# Altium footprint library Microchip PIC16.PcbLib: 69 footprints (part 1 of 5)
Each footprint in its own frame and in the unit in brackets; x right, y up, seen from the top. Pads: shape width x height; smd on the part's side, far side on the other; paste and mask are expansions set on the pad; w line width, h text height; cw(c..) or ccw(c..) is an arc to the next point about the centre after c.
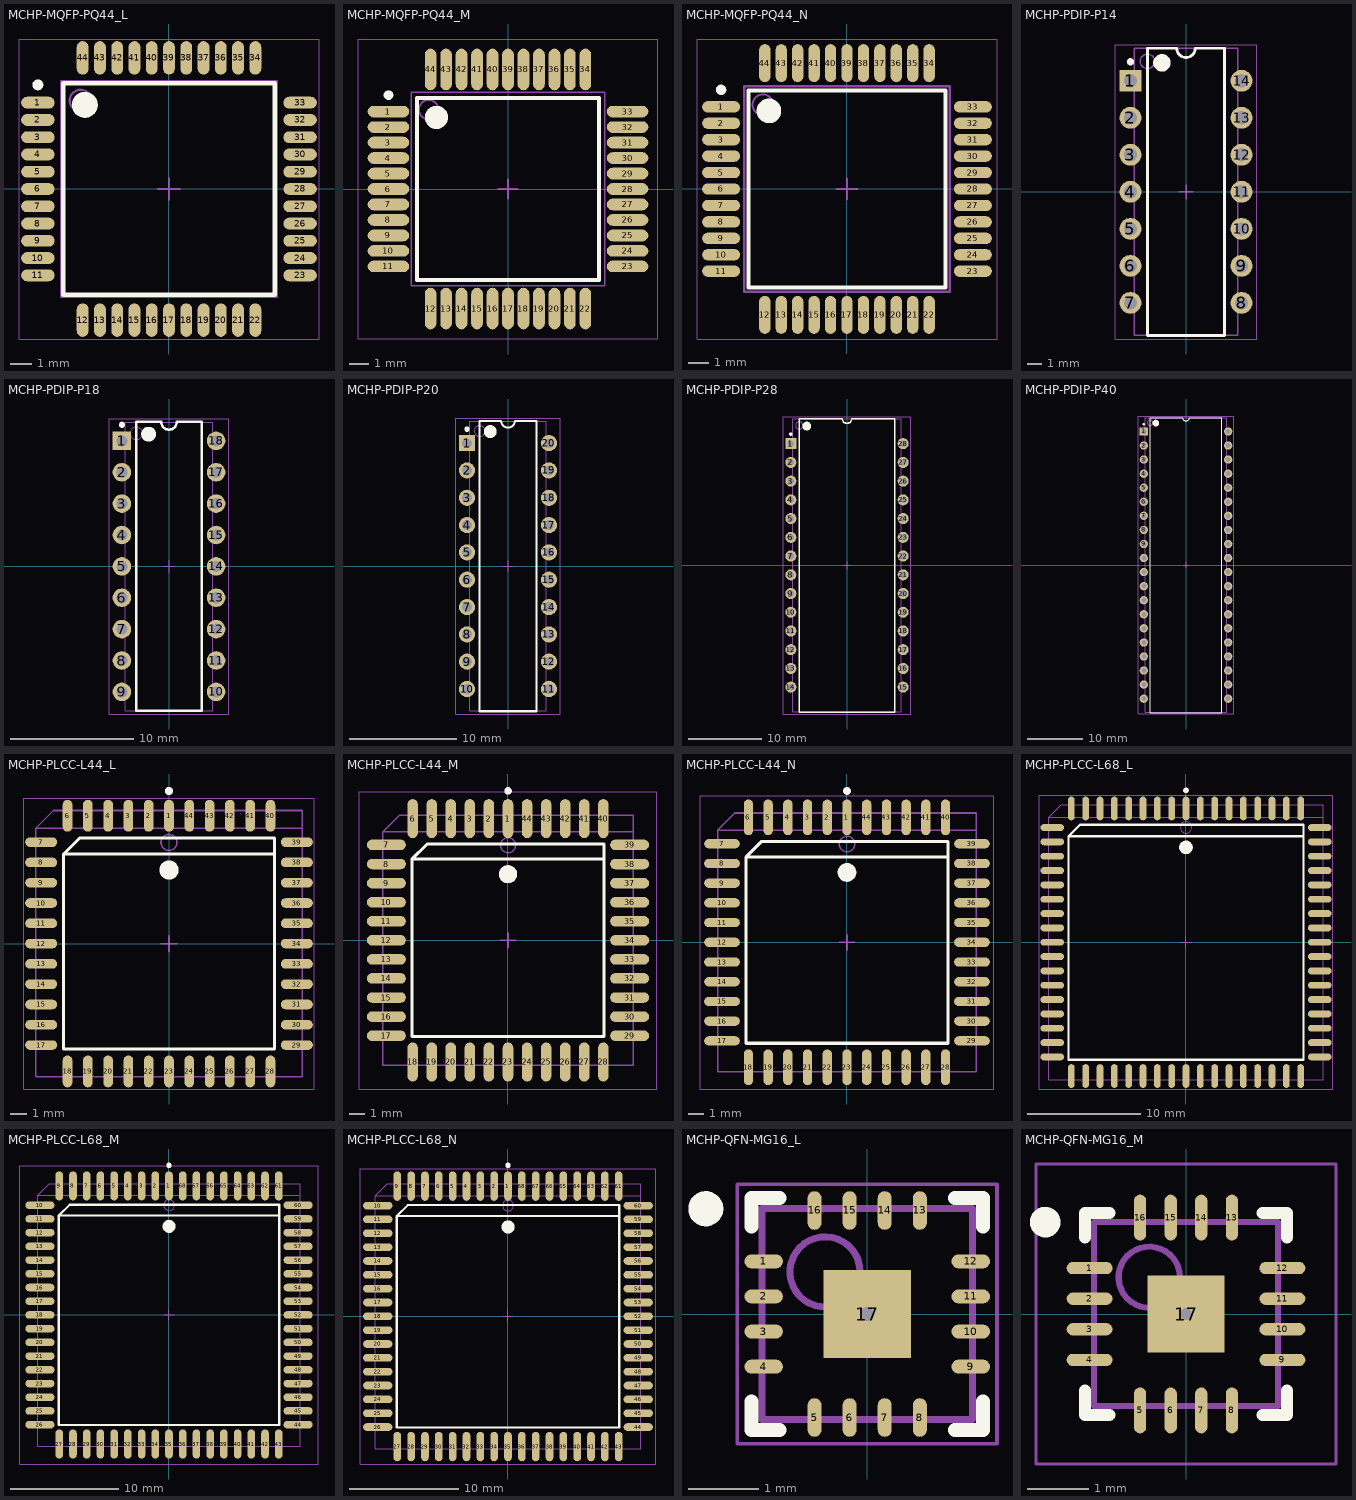
[diagram p0: the footprints below, top view; thin cyan lines are the x and y axes]

## MCHP-MQFP-PQ44_L [mm] "MQFP, 44-Leads, Body 10x10mm, Pitch 0.8mm, IPC High Density"
height 2.45
pads (44):
  oval 1.55x0.55 smd: 1(-6.075,4) 2(-6.075,3.2) 3(-6.075,2.4) 4(-6.075,1.6) 5(-6.075,0.8) 6(-6.075,0) 7(-6.075,-0.8) 8(-6.075,-1.6) 9(-6.075,-2.4) 10(-6.075,-3.2) 11(-6.075,-4) 23(6.075,-4) 24(6.075,-3.2) 25(6.075,-2.4) 26(6.075,-1.6) 27(6.075,-0.8) 28(6.075,0) 29(6.075,0.8) 30(6.075,1.6) 31(6.075,2.4) 32(6.075,3.2) 33(6.075,4)
  oval 0.55x1.55 smd: 12(-4,-6.075) 13(-3.2,-6.075) 14(-2.4,-6.075) 15(-1.6,-6.075) 16(-0.8,-6.075) 17(0,-6.075) 18(0.8,-6.075) 19(1.6,-6.075) 20(2.4,-6.075) 21(3.2,-6.075) 22(4,-6.075) 34(4,6.075) 35(3.2,6.075) 36(2.4,6.075) 37(1.6,6.075) 38(0.8,6.075) 39(0,6.075) 40(-0.8,6.075) 41(-1.6,6.075) 42(-2.4,6.075) 43(-3.2,6.075) 44(-4,6.075)
Top Overlay:
  circle w0.25: c-6.075,4.825 r0.125
  circle w0.6: c-3.9,3.9 r0.3
  lines w0.2: -4.9,-4.9 -4.9,4.9 4.9,4.9 4.9,-4.9 -4.9,-4.9
Mechanical 13:
  circle w0.1: c-4.1,4.1 r0.5
  lines w0.1: -5,-5 -5,5 5,5 5,-5 -5,-5
Mechanical 15:
  lines w0.05: -6.95,-6.95 -6.95,6.95 6.95,6.95 6.95,-6.95 -6.95,-6.95
  lines w0.1: -0.5,0 0.5,0 ; 0,-0.5 0,0.5
3D body: height 2.45, standoff 0, extent -5,-5 5,5

## MCHP-MQFP-PQ44_M [mm] "MQFP, 44-Leads, Body 10x10mm, Pitch 0.8 mm, IPC Low Density"
height 2.45
pads (44):
  oval 2.15x0.6 smd: 1(-6.175,4) 2(-6.175,3.2) 3(-6.175,2.4) 4(-6.175,1.6) 5(-6.175,0.8) 6(-6.175,0) 7(-6.175,-0.8) 8(-6.175,-1.6) 9(-6.175,-2.4) 10(-6.175,-3.2) 11(-6.175,-4) 23(6.175,-4) 24(6.175,-3.2) 25(6.175,-2.4) 26(6.175,-1.6) 27(6.175,-0.8) 28(6.175,0) 29(6.175,0.8) 30(6.175,1.6) 31(6.175,2.4) 32(6.175,3.2) 33(6.175,4)
  oval 0.6x2.15 smd: 12(-4,-6.175) 13(-3.2,-6.175) 14(-2.4,-6.175) 15(-1.6,-6.175) 16(-0.8,-6.175) 17(0,-6.175) 18(0.8,-6.175) 19(1.6,-6.175) 20(2.4,-6.175) 21(3.2,-6.175) 22(4,-6.175) 34(4,6.175) 35(3.2,6.175) 36(2.4,6.175) 37(1.6,6.175) 38(0.8,6.175) 39(0,6.175) 40(-0.8,6.175) 41(-1.6,6.175) 42(-2.4,6.175) 43(-3.2,6.175) 44(-4,6.175)
Top Overlay:
  circle w0.25: c-6.175,4.85 r0.125
  circle w0.6: c-3.7,3.7 r0.3
  lines w0.2: -4.7,-4.7 -4.7,4.7 4.7,4.7 4.7,-4.7 -4.7,-4.7
Mechanical 13:
  circle w0.1: c-4.1,4.1 r0.5
  lines w0.1: -5,-5 -5,5 5,5 5,-5 -5,-5
Mechanical 15:
  lines w0.05: -7.75,-7.75 -7.75,7.75 7.75,7.75 7.75,-7.75 -7.75,-7.75
  lines w0.1: -0.5,0 0.5,0 ; 0,-0.5 0,0.5
3D body: height 2.45, standoff 0, extent -5,-5 5,5

## MCHP-MQFP-PQ44_N [mm] "MQFP, 44-Leads, Body 10x10mm, Pitch 0.8mm, IPC Medium Density"
height 2.45
pads (44):
  oval 1.85x0.55 smd: 1(-6.125,4) 2(-6.125,3.2) 3(-6.125,2.4) 4(-6.125,1.6) 5(-6.125,0.8) 6(-6.125,0) 7(-6.125,-0.8) 8(-6.125,-1.6) 9(-6.125,-2.4) 10(-6.125,-3.2) 11(-6.125,-4) 23(6.125,-4) 24(6.125,-3.2) 25(6.125,-2.4) 26(6.125,-1.6) 27(6.125,-0.8) 28(6.125,0) 29(6.125,0.8) 30(6.125,1.6) 31(6.125,2.4) 32(6.125,3.2) 33(6.125,4)
  oval 0.55x1.85 smd: 12(-4,-6.125) 13(-3.2,-6.125) 14(-2.4,-6.125) 15(-1.6,-6.125) 16(-0.8,-6.125) 17(0,-6.125) 18(0.8,-6.125) 19(1.6,-6.125) 20(2.4,-6.125) 21(3.2,-6.125) 22(4,-6.125) 34(4,6.125) 35(3.2,6.125) 36(2.4,6.125) 37(1.6,6.125) 38(0.8,6.125) 39(0,6.125) 40(-0.8,6.125) 41(-1.6,6.125) 42(-2.4,6.125) 43(-3.2,6.125) 44(-4,6.125)
Top Overlay:
  circle w0.25: c-6.125,4.825 r0.125
  circle w0.6: c-3.8,3.8 r0.3
  lines w0.2: -4.8,-4.8 -4.8,4.8 4.8,4.8 4.8,-4.8 -4.8,-4.8
Mechanical 13:
  circle w0.1: c-4.1,4.1 r0.5
  lines w0.1: -5,-5 -5,5 5,5 5,-5 -5,-5
Mechanical 15:
  lines w0.05: -7.3,-7.3 -7.3,7.3 7.3,7.3 7.3,-7.3 -7.3,-7.3
  lines w0.1: -0.5,0 0.5,0 ; 0,-0.5 0,0.5
3D body: height 2.45, standoff 0, extent -5,-5 5,5

## MCHP-PDIP-P14 [mm] "DIP, 14-Leads, Body 19.177x6.604mm, Pitch 2.54mm"
height 5.34
pads (14):
  rect 1.5x1.5 hole 0.9: 1(-3.81,7.62)
  round 1.5 hole 0.9: 2(-3.81,5.08) 3(-3.81,2.54) 4(-3.81,0) 5(-3.81,-2.54) 6(-3.81,-5.08) 7(-3.81,-7.62) 8(3.81,-7.62) 9(3.81,-5.08) 10(3.81,-2.54) 11(3.81,0) 12(3.81,2.54) 13(3.81,5.08) 14(3.81,7.62)
Top Overlay:
  circle w0.25: c-3.81,8.92 r0.125
  circle w0.6: c-1.65,8.85 r0.3
  lines w0.2: -2.65,-9.85 -2.65,9.85 -0.635,9.85 ccw(c0,9.85) 0.635,9.85 2.65,9.85 2.65,-9.85 -2.65,-9.85
Mechanical 13:
  circle w0.1: c-2.65,8.95 r0.5
  lines w0.1: -3.55,-9.85 -3.55,9.85 3.55,9.85 3.55,-9.85 -3.55,-9.85
Mechanical 15:
  lines w0.05: -4.85,-10.1 -4.85,10.1 4.85,10.1 4.85,-10.1 -4.85,-10.1
  lines w0.1: -0.5,0 0.5,0 ; 0,-0.5 0,0.5
3D body: height 2.73, standoff 0, extent -3.945,7.12 -3.675,8.12
3D body: height 3, standoff 2.72, extent -3.945,7.12 -3.55,8.12
3D body: height 0, standoff -1.6, extent -3.945,7.26 -3.675,7.98
3D body: height 2.73, standoff 0, extent -3.945,4.58 -3.675,5.58
3D body: height 3, standoff 2.72, extent -3.945,4.58 -3.55,5.58
3D body: height 0, standoff -1.6, extent -3.945,4.72 -3.675,5.44
3D body: height 2.73, standoff 0, extent -3.945,2.04 -3.675,3.04
3D body: height 3, standoff 2.72, extent -3.945,2.04 -3.55,3.04
3D body: height 0, standoff -1.6, extent -3.945,2.18 -3.675,2.9
3D body: height 2.73, standoff 0, extent -3.945,-0.5 -3.675,0.5
3D body: height 3, standoff 2.72, extent -3.945,-0.5 -3.55,0.5
3D body: height 0, standoff -1.6, extent -3.945,-0.36 -3.675,0.36
3D body: height 2.73, standoff 0, extent -3.945,-3.04 -3.675,-2.04
3D body: height 3, standoff 2.72, extent -3.945,-3.04 -3.55,-2.04
3D body: height 0, standoff -1.6, extent -3.945,-2.9 -3.675,-2.18
3D body: height 2.73, standoff 0, extent -3.945,-5.58 -3.675,-4.58
3D body: height 3, standoff 2.72, extent -3.945,-5.58 -3.55,-4.58
3D body: height 0, standoff -1.6, extent -3.945,-5.44 -3.675,-4.72
3D body: height 2.73, standoff 0, extent -3.945,-8.12 -3.675,-7.12
3D body: height 3, standoff 2.72, extent -3.945,-8.12 -3.55,-7.12
3D body: height 0, standoff -1.6, extent -3.945,-7.98 -3.675,-7.26
3D body: height 2.73, standoff 0, extent 3.675,-8.12 3.945,-7.12
3D body: height 3, standoff 2.72, extent 3.55,-8.12 3.945,-7.12
3D body: height 0, standoff -1.6, extent 3.675,-7.98 3.945,-7.26
3D body: height 2.73, standoff 0, extent 3.675,-5.58 3.945,-4.58
3D body: height 3, standoff 2.72, extent 3.55,-5.58 3.945,-4.58
3D body: height 0, standoff -1.6, extent 3.675,-5.44 3.945,-4.72
3D body: height 2.73, standoff 0, extent 3.675,-3.04 3.945,-2.04
3D body: height 3, standoff 2.72, extent 3.55,-3.04 3.945,-2.04
3D body: height 0, standoff -1.6, extent 3.675,-2.9 3.945,-2.18
3D body: height 2.73, standoff 0, extent 3.675,-0.5 3.945,0.5
3D body: height 3, standoff 2.72, extent 3.55,-0.5 3.945,0.5
3D body: height 0, standoff -1.6, extent 3.675,-0.36 3.945,0.36
3D body: height 2.73, standoff 0, extent 3.675,2.04 3.945,3.04
3D body: height 3, standoff 2.72, extent 3.55,2.04 3.945,3.04
3D body: height 0, standoff -1.6, extent 3.675,2.18 3.945,2.9
3D body: height 2.73, standoff 0, extent 3.675,4.58 3.945,5.58
3D body: height 3, standoff 2.72, extent 3.55,4.58 3.945,5.58
3D body: height 0, standoff -1.6, extent 3.675,4.72 3.945,5.44
3D body: height 2.73, standoff 0, extent 3.675,7.12 3.945,8.12
3D body: height 3, standoff 2.72, extent 3.55,7.12 3.945,8.12
3D body: height 0, standoff -1.6, extent 3.675,7.26 3.945,7.98
3D body: height 5.34, standoff 0.38, extent -3.55,-9.85 3.55,9.85

## MCHP-PDIP-P18 [mm] "DIP, 18-Leads, Body 22.83x6.604mm, Pitch 2.54mm"
height 5.33
pads (18):
  rect 1.5x1.5 hole 0.9: 1(-3.81,10.16)
  round 1.5 hole 0.9: 2(-3.81,7.62) 3(-3.81,5.08) 4(-3.81,2.54) 5(-3.81,0) 6(-3.81,-2.54) 7(-3.81,-5.08) 8(-3.81,-7.62) 9(-3.81,-10.16) 10(3.81,-10.16) 11(3.81,-7.62) 12(3.81,-5.08) 13(3.81,-2.54) 14(3.81,0) 15(3.81,2.54) 16(3.81,5.08) 17(3.81,7.62) 18(3.81,10.16)
Top Overlay:
  circle w0.25: c-3.81,11.46 r0.125
  circle w0.6: c-1.65,10.7 r0.3
  lines w0.2: -2.65,-11.7 -2.65,11.7 -0.635,11.7 ccw(c0,11.7) 0.635,11.7 2.65,11.7 2.65,-11.7 -2.65,-11.7
Mechanical 13:
  circle w0.1: c-2.65,10.775 r0.5
  lines w0.1: -3.55,-11.675 -3.55,11.675 3.55,11.675 3.55,-11.675 -3.55,-11.675
Mechanical 15:
  lines w0.05: -4.85,-11.95 -4.85,11.95 4.85,11.95 4.85,-11.95 -4.85,-11.95
  lines w0.1: -0.5,0 0.5,0 ; 0,-0.5 0,0.5
3D body: height 2.72, standoff 0, extent -3.945,9.66 -3.675,10.66
3D body: height 2.99, standoff 2.72, extent -3.945,9.66 -3.55,10.66
3D body: height 0, standoff -1.6, extent -3.945,9.8 -3.675,10.52
3D body: height 2.72, standoff 0, extent -3.945,7.12 -3.675,8.12
3D body: height 2.99, standoff 2.72, extent -3.945,7.12 -3.55,8.12
3D body: height 0, standoff -1.6, extent -3.945,7.26 -3.675,7.98
3D body: height 2.72, standoff 0, extent -3.945,4.58 -3.675,5.58
3D body: height 2.99, standoff 2.72, extent -3.945,4.58 -3.55,5.58
3D body: height 0, standoff -1.6, extent -3.945,4.72 -3.675,5.44
3D body: height 2.72, standoff 0, extent -3.945,2.04 -3.675,3.04
3D body: height 2.99, standoff 2.72, extent -3.945,2.04 -3.55,3.04
3D body: height 0, standoff -1.6, extent -3.945,2.18 -3.675,2.9
3D body: height 2.72, standoff 0, extent -3.945,-0.5 -3.675,0.5
3D body: height 2.99, standoff 2.72, extent -3.945,-0.5 -3.55,0.5
3D body: height 0, standoff -1.6, extent -3.945,-0.36 -3.675,0.36
3D body: height 2.72, standoff 0, extent -3.945,-3.04 -3.675,-2.04
3D body: height 2.99, standoff 2.72, extent -3.945,-3.04 -3.55,-2.04
3D body: height 0, standoff -1.6, extent -3.945,-2.9 -3.675,-2.18
3D body: height 2.72, standoff 0, extent -3.945,-5.58 -3.675,-4.58
3D body: height 2.99, standoff 2.72, extent -3.945,-5.58 -3.55,-4.58
3D body: height 0, standoff -1.6, extent -3.945,-5.44 -3.675,-4.72
3D body: height 2.72, standoff 0, extent -3.945,-8.12 -3.675,-7.12
3D body: height 2.99, standoff 2.72, extent -3.945,-8.12 -3.55,-7.12
3D body: height 0, standoff -1.6, extent -3.945,-7.98 -3.675,-7.26
3D body: height 2.72, standoff 0, extent -3.945,-10.66 -3.675,-9.66
3D body: height 2.99, standoff 2.72, extent -3.945,-10.66 -3.55,-9.66
3D body: height 0, standoff -1.6, extent -3.945,-10.52 -3.675,-9.8
3D body: height 2.72, standoff 0, extent 3.675,-10.66 3.945,-9.66
3D body: height 2.99, standoff 2.72, extent 3.55,-10.66 3.945,-9.66
3D body: height 0, standoff -1.6, extent 3.675,-10.52 3.945,-9.8
3D body: height 2.72, standoff 0, extent 3.675,-8.12 3.945,-7.12
3D body: height 2.99, standoff 2.72, extent 3.55,-8.12 3.945,-7.12
3D body: height 0, standoff -1.6, extent 3.675,-7.98 3.945,-7.26
3D body: height 2.72, standoff 0, extent 3.675,-5.58 3.945,-4.58
3D body: height 2.99, standoff 2.72, extent 3.55,-5.58 3.945,-4.58
3D body: height 0, standoff -1.6, extent 3.675,-5.44 3.945,-4.72
3D body: height 2.72, standoff 0, extent 3.675,-3.04 3.945,-2.04
3D body: height 2.99, standoff 2.72, extent 3.55,-3.04 3.945,-2.04
3D body: height 0, standoff -1.6, extent 3.675,-2.9 3.945,-2.18
3D body: height 2.72, standoff 0, extent 3.675,-0.5 3.945,0.5
3D body: height 2.99, standoff 2.72, extent 3.55,-0.5 3.945,0.5
3D body: height 0, standoff -1.6, extent 3.675,-0.36 3.945,0.36
3D body: height 2.72, standoff 0, extent 3.675,2.04 3.945,3.04
3D body: height 2.99, standoff 2.72, extent 3.55,2.04 3.945,3.04
3D body: height 0, standoff -1.6, extent 3.675,2.18 3.945,2.9
3D body: height 2.72, standoff 0, extent 3.675,4.58 3.945,5.58
3D body: height 2.99, standoff 2.72, extent 3.55,4.58 3.945,5.58
3D body: height 0, standoff -1.6, extent 3.675,4.72 3.945,5.44
3D body: height 2.72, standoff 0, extent 3.675,7.12 3.945,8.12
3D body: height 2.99, standoff 2.72, extent 3.55,7.12 3.945,8.12
3D body: height 0, standoff -1.6, extent 3.675,7.26 3.945,7.98
3D body: height 2.72, standoff 0, extent 3.675,9.66 3.945,10.66
3D body: height 2.99, standoff 2.72, extent 3.55,9.66 3.945,10.66
3D body: height 0, standoff -1.6, extent 3.675,9.8 3.945,10.52
3D body: height 5.33, standoff 0.38, extent -3.55,-11.675 3.55,11.675

## MCHP-PDIP-P20 [mm] "DIP, 20-Leads, Body 25.91x6.6mm, Pitch 2.54mm"
height 5.34
pads (20):
  rect 1.5x1.5 hole 0.9: 1(-3.81,11.43)
  round 1.5 hole 0.9: 2(-3.81,8.89) 3(-3.81,6.35) 4(-3.81,3.81) 5(-3.81,1.27) 6(-3.81,-1.27) 7(-3.81,-3.81) 8(-3.81,-6.35) 9(-3.81,-8.89) 10(-3.81,-11.43) 11(3.81,-11.43) 12(3.81,-8.89) 13(3.81,-6.35) 14(3.81,-3.81) 15(3.81,-1.27) 16(3.81,1.27) 17(3.81,3.81) 18(3.81,6.35) 19(3.81,8.89) 20(3.81,11.43)
Top Overlay:
  circle w0.6: c-1.65,12.5 r0.3
  circle w0.25: c-3.81,12.73 r0.125
  lines w0.2: -2.65,-13.5 2.65,-13.5 2.65,13.5 0.635,13.5 cw(c0,13.5) -0.635,13.5 -2.65,13.5 -2.65,-13.5
Mechanical 13:
  circle w0.1: c-2.65,12.55 r0.5
  lines w0.1: -3.55,-13.45 3.55,-13.45 3.55,13.45 -3.55,13.45 -3.55,-13.45
Mechanical 15:
  lines w0.05: -4.85,-13.75 4.85,-13.75 4.85,13.75 -4.85,13.75 -4.85,-13.75
  lines w0.1: -0.5,0 0.5,0 ; 0,-0.5 0,0.5
3D body: height 5.34, standoff 0.38, extent -3.55,-13.45 3.55,13.45
3D body: height 0, standoff -1.6, extent 3.675,11.07 3.945,11.79
3D body: height 2.99, standoff 2.72, extent 3.55,10.93 3.945,11.93
3D body: height 2.72, standoff 0, extent 3.675,10.93 3.945,11.93
3D body: height 0, standoff -1.6, extent 3.675,8.53 3.945,9.25
3D body: height 2.99, standoff 2.72, extent 3.55,8.39 3.945,9.39
3D body: height 2.72, standoff 0, extent 3.675,8.39 3.945,9.39
3D body: height 0, standoff -1.6, extent 3.675,5.99 3.945,6.71
3D body: height 2.99, standoff 2.72, extent 3.55,5.85 3.945,6.85
3D body: height 2.72, standoff 0, extent 3.675,5.85 3.945,6.85
3D body: height 0, standoff -1.6, extent 3.675,3.45 3.945,4.17
3D body: height 2.99, standoff 2.72, extent 3.55,3.31 3.945,4.31
3D body: height 2.72, standoff 0, extent 3.675,3.31 3.945,4.31
3D body: height 0, standoff -1.6, extent 3.675,0.91 3.945,1.63
3D body: height 2.99, standoff 2.72, extent 3.55,0.77 3.945,1.77
3D body: height 2.72, standoff 0, extent 3.675,0.77 3.945,1.77
3D body: height 0, standoff -1.6, extent 3.675,-1.63 3.945,-0.91
3D body: height 2.99, standoff 2.72, extent 3.55,-1.77 3.945,-0.77
3D body: height 2.72, standoff 0, extent 3.675,-1.77 3.945,-0.77
3D body: height 0, standoff -1.6, extent 3.675,-4.17 3.945,-3.45
3D body: height 2.99, standoff 2.72, extent 3.55,-4.31 3.945,-3.31
3D body: height 2.72, standoff 0, extent 3.675,-4.31 3.945,-3.31
3D body: height 0, standoff -1.6, extent 3.675,-6.71 3.945,-5.99
3D body: height 2.99, standoff 2.72, extent 3.55,-6.85 3.945,-5.85
3D body: height 2.72, standoff 0, extent 3.675,-6.85 3.945,-5.85
3D body: height 0, standoff -1.6, extent 3.675,-9.25 3.945,-8.53
3D body: height 2.99, standoff 2.72, extent 3.55,-9.39 3.945,-8.39
3D body: height 2.72, standoff 0, extent 3.675,-9.39 3.945,-8.39
3D body: height 0, standoff -1.6, extent 3.675,-11.79 3.945,-11.07
3D body: height 2.99, standoff 2.72, extent 3.55,-11.93 3.945,-10.93
3D body: height 2.72, standoff 0, extent 3.675,-11.93 3.945,-10.93
3D body: height 0, standoff -1.6, extent -3.945,-11.79 -3.675,-11.07
3D body: height 2.99, standoff 2.72, extent -3.945,-11.93 -3.55,-10.93
3D body: height 2.72, standoff 0, extent -3.945,-11.93 -3.675,-10.93
3D body: height 0, standoff -1.6, extent -3.945,-9.25 -3.675,-8.53
3D body: height 2.99, standoff 2.72, extent -3.945,-9.39 -3.55,-8.39
3D body: height 2.72, standoff 0, extent -3.945,-9.39 -3.675,-8.39
3D body: height 0, standoff -1.6, extent -3.945,-6.71 -3.675,-5.99
3D body: height 2.99, standoff 2.72, extent -3.945,-6.85 -3.55,-5.85
3D body: height 2.72, standoff 0, extent -3.945,-6.85 -3.675,-5.85
3D body: height 0, standoff -1.6, extent -3.945,-4.17 -3.675,-3.45
3D body: height 2.99, standoff 2.72, extent -3.945,-4.31 -3.55,-3.31
3D body: height 2.72, standoff 0, extent -3.945,-4.31 -3.675,-3.31
3D body: height 0, standoff -1.6, extent -3.945,-1.63 -3.675,-0.91
3D body: height 2.99, standoff 2.72, extent -3.945,-1.77 -3.55,-0.77
3D body: height 2.72, standoff 0, extent -3.945,-1.77 -3.675,-0.77
3D body: height 0, standoff -1.6, extent -3.945,0.91 -3.675,1.63
3D body: height 2.99, standoff 2.72, extent -3.945,0.77 -3.55,1.77
3D body: height 2.72, standoff 0, extent -3.945,0.77 -3.675,1.77
3D body: height 0, standoff -1.6, extent -3.945,3.45 -3.675,4.17
3D body: height 2.99, standoff 2.72, extent -3.945,3.31 -3.55,4.31
3D body: height 2.72, standoff 0, extent -3.945,3.31 -3.675,4.31
3D body: height 0, standoff -1.6, extent -3.945,5.99 -3.675,6.71
3D body: height 2.99, standoff 2.72, extent -3.945,5.85 -3.55,6.85
3D body: height 2.72, standoff 0, extent -3.945,5.85 -3.675,6.85
3D body: height 0, standoff -1.6, extent -3.945,8.53 -3.675,9.25
3D body: height 2.99, standoff 2.72, extent -3.945,8.39 -3.55,9.39
3D body: height 2.72, standoff 0, extent -3.945,8.39 -3.675,9.39
3D body: height 0, standoff -1.6, extent -3.945,11.07 -3.675,11.79
3D body: height 2.99, standoff 2.72, extent -3.945,10.93 -3.55,11.93
3D body: height 2.72, standoff 0, extent -3.945,10.93 -3.675,11.93

## MCHP-PDIP-P28 [mm] "DIP, 28-Leads, Body 37.4x13.53mm, Pitch 2.54mm"
height 6.35
pads (28):
  rect 1.5x1.5 hole 0.9: 1(-7.62,16.51)
  round 1.5 hole 0.9: 2(-7.62,13.97) 3(-7.62,11.43) 4(-7.62,8.89) 5(-7.62,6.35) 6(-7.62,3.81) 7(-7.62,1.27) 8(-7.62,-1.27) 9(-7.62,-3.81) 10(-7.62,-6.35) 11(-7.62,-8.89) 12(-7.62,-11.43) 13(-7.62,-13.97) 14(-7.62,-16.51) 15(7.62,-16.51) 16(7.62,-13.97) 17(7.62,-11.43) 18(7.62,-8.89) 19(7.62,-6.35) 20(7.62,-3.81) 21(7.62,-1.27) 22(7.62,1.27) 23(7.62,3.81) 24(7.62,6.35) 25(7.62,8.89) 26(7.62,11.43) 27(7.62,13.97) 28(7.62,16.51)
Top Overlay:
  circle w0.25: c-7.62,17.81 r0.125
  circle w0.6: c-5.45,18.9 r0.3
  lines w0.2: -6.45,-19.9 -6.45,19.9 -0.635,19.9 ccw(c0,19.9) 0.635,19.9 6.45,19.9 6.45,-19.9 -6.45,-19.9
Mechanical 13:
  circle w0.1: c-6.475,18.975 r0.5
  lines w0.1: -7.375,-19.875 -7.375,19.875 7.375,19.875 7.375,-19.875 -7.375,-19.875
Mechanical 15:
  lines w0.05: -8.65,-20.15 -8.65,20.15 8.65,20.15 8.65,-20.15 -8.65,-20.15
  lines w0.1: -0.5,0 0.5,0 ; 0,-0.5 0,0.5
3D body: height 3.24, standoff 0, extent -7.755,16.01 -7.485,17.01
3D body: height 3.51, standoff 3.23, extent -7.755,16.01 -7.375,17.01
3D body: height 0, standoff -1.6, extent -7.755,16.15 -7.485,16.87
3D body: height 3.24, standoff 0, extent -7.755,13.47 -7.485,14.47
3D body: height 3.51, standoff 3.23, extent -7.755,13.47 -7.375,14.47
3D body: height 0, standoff -1.6, extent -7.755,13.61 -7.485,14.33
3D body: height 3.24, standoff 0, extent -7.755,10.93 -7.485,11.93
3D body: height 3.51, standoff 3.23, extent -7.755,10.93 -7.375,11.93
3D body: height 0, standoff -1.6, extent -7.755,11.07 -7.485,11.79
3D body: height 3.24, standoff 0, extent -7.755,8.39 -7.485,9.39
3D body: height 3.51, standoff 3.23, extent -7.755,8.39 -7.375,9.39
3D body: height 0, standoff -1.6, extent -7.755,8.53 -7.485,9.25
3D body: height 3.24, standoff 0, extent -7.755,5.85 -7.485,6.85
3D body: height 3.51, standoff 3.23, extent -7.755,5.85 -7.375,6.85
3D body: height 0, standoff -1.6, extent -7.755,5.99 -7.485,6.71
3D body: height 3.24, standoff 0, extent -7.755,3.31 -7.485,4.31
3D body: height 3.51, standoff 3.23, extent -7.755,3.31 -7.375,4.31
3D body: height 0, standoff -1.6, extent -7.755,3.45 -7.485,4.17
3D body: height 3.24, standoff 0, extent -7.755,0.77 -7.485,1.77
3D body: height 3.51, standoff 3.23, extent -7.755,0.77 -7.375,1.77
3D body: height 0, standoff -1.6, extent -7.755,0.91 -7.485,1.63
3D body: height 3.24, standoff 0, extent -7.755,-1.77 -7.485,-0.77
3D body: height 3.51, standoff 3.23, extent -7.755,-1.77 -7.375,-0.77
3D body: height 0, standoff -1.6, extent -7.755,-1.63 -7.485,-0.91
3D body: height 3.24, standoff 0, extent -7.755,-4.31 -7.485,-3.31
3D body: height 3.51, standoff 3.23, extent -7.755,-4.31 -7.375,-3.31
3D body: height 0, standoff -1.6, extent -7.755,-4.17 -7.485,-3.45
3D body: height 3.24, standoff 0, extent -7.755,-6.85 -7.485,-5.85
3D body: height 3.51, standoff 3.23, extent -7.755,-6.85 -7.375,-5.85
3D body: height 0, standoff -1.6, extent -7.755,-6.71 -7.485,-5.99
3D body: height 3.24, standoff 0, extent -7.755,-9.39 -7.485,-8.39
3D body: height 3.51, standoff 3.23, extent -7.755,-9.39 -7.375,-8.39
3D body: height 0, standoff -1.6, extent -7.755,-9.25 -7.485,-8.53
3D body: height 3.24, standoff 0, extent -7.755,-11.93 -7.485,-10.93
3D body: height 3.51, standoff 3.23, extent -7.755,-11.93 -7.375,-10.93
3D body: height 0, standoff -1.6, extent -7.755,-11.79 -7.485,-11.07
3D body: height 3.24, standoff 0, extent -7.755,-14.47 -7.485,-13.47
3D body: height 3.51, standoff 3.23, extent -7.755,-14.47 -7.375,-13.47
3D body: height 0, standoff -1.6, extent -7.755,-14.33 -7.485,-13.61
3D body: height 3.24, standoff 0, extent -7.755,-17.01 -7.485,-16.01
3D body: height 3.51, standoff 3.23, extent -7.755,-17.01 -7.375,-16.01
3D body: height 0, standoff -1.6, extent -7.755,-16.87 -7.485,-16.15
3D body: height 3.24, standoff 0, extent 7.485,-17.01 7.755,-16.01
3D body: height 3.51, standoff 3.23, extent 7.375,-17.01 7.755,-16.01
3D body: height 0, standoff -1.6, extent 7.485,-16.87 7.755,-16.15
3D body: height 3.24, standoff 0, extent 7.485,-14.47 7.755,-13.47
3D body: height 3.51, standoff 3.23, extent 7.375,-14.47 7.755,-13.47
3D body: height 0, standoff -1.6, extent 7.485,-14.33 7.755,-13.61
3D body: height 3.24, standoff 0, extent 7.485,-11.93 7.755,-10.93
3D body: height 3.51, standoff 3.23, extent 7.375,-11.93 7.755,-10.93
3D body: height 0, standoff -1.6, extent 7.485,-11.79 7.755,-11.07
3D body: height 3.24, standoff 0, extent 7.485,-9.39 7.755,-8.39
3D body: height 3.51, standoff 3.23, extent 7.375,-9.39 7.755,-8.39
3D body: height 0, standoff -1.6, extent 7.485,-9.25 7.755,-8.53
3D body: height 3.24, standoff 0, extent 7.485,-6.85 7.755,-5.85
3D body: height 3.51, standoff 3.23, extent 7.375,-6.85 7.755,-5.85
3D body: height 0, standoff -1.6, extent 7.485,-6.71 7.755,-5.99
3D body: height 3.24, standoff 0, extent 7.485,-4.31 7.755,-3.31
3D body: height 3.51, standoff 3.23, extent 7.375,-4.31 7.755,-3.31
3D body: height 0, standoff -1.6, extent 7.485,-4.17 7.755,-3.45
3D body: height 3.24, standoff 0, extent 7.485,-1.77 7.755,-0.77
3D body: height 3.51, standoff 3.23, extent 7.375,-1.77 7.755,-0.77
3D body: height 0, standoff -1.6, extent 7.485,-1.63 7.755,-0.91
3D body: height 3.24, standoff 0, extent 7.485,0.77 7.755,1.77
3D body: height 3.51, standoff 3.23, extent 7.375,0.77 7.755,1.77
3D body: height 0, standoff -1.6, extent 7.485,0.91 7.755,1.63
3D body: height 3.24, standoff 0, extent 7.485,3.31 7.755,4.31
3D body: height 3.51, standoff 3.23, extent 7.375,3.31 7.755,4.31
3D body: height 0, standoff -1.6, extent 7.485,3.45 7.755,4.17
3D body: height 3.24, standoff 0, extent 7.485,5.85 7.755,6.85
3D body: height 3.51, standoff 3.23, extent 7.375,5.85 7.755,6.85
3D body: height 0, standoff -1.6, extent 7.485,5.99 7.755,6.71
3D body: height 3.24, standoff 0, extent 7.485,8.39 7.755,9.39
3D body: height 3.51, standoff 3.23, extent 7.375,8.39 7.755,9.39
3D body: height 0, standoff -1.6, extent 7.485,8.53 7.755,9.25
3D body: height 3.24, standoff 0, extent 7.485,10.93 7.755,11.93
3D body: height 3.51, standoff 3.23, extent 7.375,10.93 7.755,11.93
3D body: height 0, standoff -1.6, extent 7.485,11.07 7.755,11.79
3D body: height 3.24, standoff 0, extent 7.485,13.47 7.755,14.47
3D body: height 3.51, standoff 3.23, extent 7.375,13.47 7.755,14.47
3D body: height 0, standoff -1.6, extent 7.485,13.61 7.755,14.33
3D body: height 3.24, standoff 0, extent 7.485,16.01 7.755,17.01
3D body: height 3.51, standoff 3.23, extent 7.375,16.01 7.755,17.01
3D body: height 0, standoff -1.6, extent 7.485,16.15 7.755,16.87
3D body: height 6.35, standoff 0.38, extent -7.375,-19.875 7.375,19.875

## MCHP-PDIP-P40 [mm] "PDIP, 40-Leads, Body 51.75x13.53mm, Pitch 2.54mm"
height 6.35
pads (40):
  rect 1.5x1.5 hole 0.9: 1(-7.62,24.13)
  round 1.5 hole 0.9: 2(-7.62,21.59) 3(-7.62,19.05) 4(-7.62,16.51) 5(-7.62,13.97) 6(-7.62,11.43) 7(-7.62,8.89) 8(-7.62,6.35) 9(-7.62,3.81) 10(-7.62,1.27) 11(-7.62,-1.27) 12(-7.62,-3.81) 13(-7.62,-6.35) 14(-7.62,-8.89) 15(-7.62,-11.43) 16(-7.62,-13.97) 17(-7.62,-16.51) 18(-7.62,-19.05) 19(-7.62,-21.59) 20(-7.62,-24.13) 21(7.62,-24.13) 22(7.62,-21.59) 23(7.62,-19.05) 24(7.62,-16.51) 25(7.62,-13.97) 26(7.62,-11.43) 27(7.62,-8.89) 28(7.62,-6.35) 29(7.62,-3.81) 30(7.62,-1.27) 31(7.62,1.27) 32(7.62,3.81) 33(7.62,6.35) 34(7.62,8.89) 35(7.62,11.43) 36(7.62,13.97) 37(7.62,16.51) 38(7.62,19.05) 39(7.62,21.59) 40(7.62,24.13)
Top Overlay:
  circle w0.25: c-7.62,25.43 r0.125
  circle w0.6: c-5.45,25.65 r0.3
  lines w0.2: -6.45,-26.65 -6.45,26.65 -0.635,26.65 ccw(c0,26.65) 0.635,26.65 6.45,26.65 6.45,-26.65 -6.45,-26.65
Mechanical 13:
  circle w0.1: c-6.475,25.7 r0.5
  lines w0.1: -7.375,-26.6 -7.375,26.6 7.375,26.6 7.375,-26.6 -7.375,-26.6
Mechanical 15:
  lines w0.05: -8.65,-26.9 -8.65,26.9 8.65,26.9 8.65,-26.9 -8.65,-26.9
  lines w0.1: -0.5,0 0.5,0 ; 0,-0.5 0,0.5
3D body: height 3.24, standoff 0, extent -7.755,23.63 -7.485,24.63
3D body: height 3.51, standoff 3.23, extent -7.755,23.63 -7.375,24.63
3D body: height 0, standoff -1.6, extent -7.755,23.77 -7.485,24.49
3D body: height 3.24, standoff 0, extent -7.755,21.09 -7.485,22.09
3D body: height 3.51, standoff 3.23, extent -7.755,21.09 -7.375,22.09
3D body: height 0, standoff -1.6, extent -7.755,21.23 -7.485,21.95
3D body: height 3.24, standoff 0, extent -7.755,18.55 -7.485,19.55
3D body: height 3.51, standoff 3.23, extent -7.755,18.55 -7.375,19.55
3D body: height 0, standoff -1.6, extent -7.755,18.69 -7.485,19.41
3D body: height 3.24, standoff 0, extent -7.755,16.01 -7.485,17.01
3D body: height 3.51, standoff 3.23, extent -7.755,16.01 -7.375,17.01
3D body: height 0, standoff -1.6, extent -7.755,16.15 -7.485,16.87
3D body: height 3.24, standoff 0, extent -7.755,13.47 -7.485,14.47
3D body: height 3.51, standoff 3.23, extent -7.755,13.47 -7.375,14.47
3D body: height 0, standoff -1.6, extent -7.755,13.61 -7.485,14.33
3D body: height 3.24, standoff 0, extent -7.755,10.93 -7.485,11.93
3D body: height 3.51, standoff 3.23, extent -7.755,10.93 -7.375,11.93
3D body: height 0, standoff -1.6, extent -7.755,11.07 -7.485,11.79
3D body: height 3.24, standoff 0, extent -7.755,8.39 -7.485,9.39
3D body: height 3.51, standoff 3.23, extent -7.755,8.39 -7.375,9.39
3D body: height 0, standoff -1.6, extent -7.755,8.53 -7.485,9.25
3D body: height 3.24, standoff 0, extent -7.755,5.85 -7.485,6.85
3D body: height 3.51, standoff 3.23, extent -7.755,5.85 -7.375,6.85
3D body: height 0, standoff -1.6, extent -7.755,5.99 -7.485,6.71
3D body: height 3.24, standoff 0, extent -7.755,3.31 -7.485,4.31
3D body: height 3.51, standoff 3.23, extent -7.755,3.31 -7.375,4.31
3D body: height 0, standoff -1.6, extent -7.755,3.45 -7.485,4.17
3D body: height 3.24, standoff 0, extent -7.755,0.77 -7.485,1.77
3D body: height 3.51, standoff 3.23, extent -7.755,0.77 -7.375,1.77
3D body: height 0, standoff -1.6, extent -7.755,0.91 -7.485,1.63
3D body: height 3.24, standoff 0, extent -7.755,-1.77 -7.485,-0.77
3D body: height 3.51, standoff 3.23, extent -7.755,-1.77 -7.375,-0.77
3D body: height 0, standoff -1.6, extent -7.755,-1.63 -7.485,-0.91
3D body: height 3.24, standoff 0, extent -7.755,-4.31 -7.485,-3.31
3D body: height 3.51, standoff 3.23, extent -7.755,-4.31 -7.375,-3.31
3D body: height 0, standoff -1.6, extent -7.755,-4.17 -7.485,-3.45
3D body: height 3.24, standoff 0, extent -7.755,-6.85 -7.485,-5.85
3D body: height 3.51, standoff 3.23, extent -7.755,-6.85 -7.375,-5.85
3D body: height 0, standoff -1.6, extent -7.755,-6.71 -7.485,-5.99
3D body: height 3.24, standoff 0, extent -7.755,-9.39 -7.485,-8.39
3D body: height 3.51, standoff 3.23, extent -7.755,-9.39 -7.375,-8.39
3D body: height 0, standoff -1.6, extent -7.755,-9.25 -7.485,-8.53
3D body: height 3.24, standoff 0, extent -7.755,-11.93 -7.485,-10.93
3D body: height 3.51, standoff 3.23, extent -7.755,-11.93 -7.375,-10.93
3D body: height 0, standoff -1.6, extent -7.755,-11.79 -7.485,-11.07
3D body: height 3.24, standoff 0, extent -7.755,-14.47 -7.485,-13.47
3D body: height 3.51, standoff 3.23, extent -7.755,-14.47 -7.375,-13.47
3D body: height 0, standoff -1.6, extent -7.755,-14.33 -7.485,-13.61
3D body: height 3.24, standoff 0, extent -7.755,-17.01 -7.485,-16.01
3D body: height 3.51, standoff 3.23, extent -7.755,-17.01 -7.375,-16.01
3D body: height 0, standoff -1.6, extent -7.755,-16.87 -7.485,-16.15
3D body: height 3.24, standoff 0, extent -7.755,-19.55 -7.485,-18.55
3D body: height 3.51, standoff 3.23, extent -7.755,-19.55 -7.375,-18.55
3D body: height 0, standoff -1.6, extent -7.755,-19.41 -7.485,-18.69
3D body: height 3.24, standoff 0, extent -7.755,-22.09 -7.485,-21.09
3D body: height 3.51, standoff 3.23, extent -7.755,-22.09 -7.375,-21.09
3D body: height 0, standoff -1.6, extent -7.755,-21.95 -7.485,-21.23
3D body: height 3.24, standoff 0, extent -7.755,-24.63 -7.485,-23.63
3D body: height 3.51, standoff 3.23, extent -7.755,-24.63 -7.375,-23.63
3D body: height 0, standoff -1.6, extent -7.755,-24.49 -7.485,-23.77
3D body: height 3.24, standoff 0, extent 7.485,-24.63 7.755,-23.63
3D body: height 3.51, standoff 3.23, extent 7.375,-24.63 7.755,-23.63
3D body: height 0, standoff -1.6, extent 7.485,-24.49 7.755,-23.77
3D body: height 3.24, standoff 0, extent 7.485,-22.09 7.755,-21.09
3D body: height 3.51, standoff 3.23, extent 7.375,-22.09 7.755,-21.09
3D body: height 0, standoff -1.6, extent 7.485,-21.95 7.755,-21.23
3D body: height 3.24, standoff 0, extent 7.485,-19.55 7.755,-18.55
3D body: height 3.51, standoff 3.23, extent 7.375,-19.55 7.755,-18.55
3D body: height 0, standoff -1.6, extent 7.485,-19.41 7.755,-18.69
3D body: height 3.24, standoff 0, extent 7.485,-17.01 7.755,-16.01
3D body: height 3.51, standoff 3.23, extent 7.375,-17.01 7.755,-16.01
3D body: height 0, standoff -1.6, extent 7.485,-16.87 7.755,-16.15
3D body: height 3.24, standoff 0, extent 7.485,-14.47 7.755,-13.47
3D body: height 3.51, standoff 3.23, extent 7.375,-14.47 7.755,-13.47
3D body: height 0, standoff -1.6, extent 7.485,-14.33 7.755,-13.61
3D body: height 3.24, standoff 0, extent 7.485,-11.93 7.755,-10.93
3D body: height 3.51, standoff 3.23, extent 7.375,-11.93 7.755,-10.93
3D body: height 0, standoff -1.6, extent 7.485,-11.79 7.755,-11.07
3D body: height 3.24, standoff 0, extent 7.485,-9.39 7.755,-8.39
3D body: height 3.51, standoff 3.23, extent 7.375,-9.39 7.755,-8.39
3D body: height 0, standoff -1.6, extent 7.485,-9.25 7.755,-8.53
3D body: height 3.24, standoff 0, extent 7.485,-6.85 7.755,-5.85
3D body: height 3.51, standoff 3.23, extent 7.375,-6.85 7.755,-5.85
3D body: height 0, standoff -1.6, extent 7.485,-6.71 7.755,-5.99
3D body: height 3.24, standoff 0, extent 7.485,-4.31 7.755,-3.31
3D body: height 3.51, standoff 3.23, extent 7.375,-4.31 7.755,-3.31
3D body: height 0, standoff -1.6, extent 7.485,-4.17 7.755,-3.45
3D body: height 3.24, standoff 0, extent 7.485,-1.77 7.755,-0.77
3D body: height 3.51, standoff 3.23, extent 7.375,-1.77 7.755,-0.77
3D body: height 0, standoff -1.6, extent 7.485,-1.63 7.755,-0.91
3D body: height 3.24, standoff 0, extent 7.485,0.77 7.755,1.77
3D body: height 3.51, standoff 3.23, extent 7.375,0.77 7.755,1.77
3D body: height 0, standoff -1.6, extent 7.485,0.91 7.755,1.63
3D body: height 3.24, standoff 0, extent 7.485,3.31 7.755,4.31
3D body: height 3.51, standoff 3.23, extent 7.375,3.31 7.755,4.31
3D body: height 0, standoff -1.6, extent 7.485,3.45 7.755,4.17
3D body: height 3.24, standoff 0, extent 7.485,5.85 7.755,6.85
3D body: height 3.51, standoff 3.23, extent 7.375,5.85 7.755,6.85
3D body: height 0, standoff -1.6, extent 7.485,5.99 7.755,6.71
3D body: height 3.24, standoff 0, extent 7.485,8.39 7.755,9.39
3D body: height 3.51, standoff 3.23, extent 7.375,8.39 7.755,9.39
3D body: height 0, standoff -1.6, extent 7.485,8.53 7.755,9.25
3D body: height 3.24, standoff 0, extent 7.485,10.93 7.755,11.93
3D body: height 3.51, standoff 3.23, extent 7.375,10.93 7.755,11.93
3D body: height 0, standoff -1.6, extent 7.485,11.07 7.755,11.79
3D body: height 3.24, standoff 0, extent 7.485,13.47 7.755,14.47
3D body: height 3.51, standoff 3.23, extent 7.375,13.47 7.755,14.47
3D body: height 0, standoff -1.6, extent 7.485,13.61 7.755,14.33
3D body: height 3.24, standoff 0, extent 7.485,16.01 7.755,17.01
3D body: height 3.51, standoff 3.23, extent 7.375,16.01 7.755,17.01
3D body: height 0, standoff -1.6, extent 7.485,16.15 7.755,16.87
3D body: height 3.24, standoff 0, extent 7.485,18.55 7.755,19.55
3D body: height 3.51, standoff 3.23, extent 7.375,18.55 7.755,19.55
3D body: height 0, standoff -1.6, extent 7.485,18.69 7.755,19.41
3D body: height 3.24, standoff 0, extent 7.485,21.09 7.755,22.09
3D body: height 3.51, standoff 3.23, extent 7.375,21.09 7.755,22.09
3D body: height 0, standoff -1.6, extent 7.485,21.23 7.755,21.95
3D body: height 3.24, standoff 0, extent 7.485,23.63 7.755,24.63
3D body: height 3.51, standoff 3.23, extent 7.375,23.63 7.755,24.63
3D body: height 0, standoff -1.6, extent 7.485,23.77 7.755,24.49
3D body: height 6.35, standoff 0.38, extent -7.375,-26.6 7.375,26.6

## MCHP-PLCC-L44_L [mm] "PLCC, 44-Leads, Body 16.586x16.586mm, Pitch 1.27mm, IPC High Density"
height 4.58
pads (44):
  oval 0.6x2 smd: 1(0,8) 2(-1.27,8) 3(-2.54,8) 4(-3.81,8) 5(-5.08,8) 6(-6.35,8) 18(-6.35,-8) 19(-5.08,-8) 20(-3.81,-8) 21(-2.54,-8) 22(-1.27,-8) 23(0,-8) 24(1.27,-8) 25(2.54,-8) 26(3.81,-8) 27(5.08,-8) 28(6.35,-8) 40(6.35,8) 41(5.08,8) 42(3.81,8) 43(2.54,8) 44(1.27,8)
  oval 2x0.6 smd: 7(-8,6.35) 8(-8,5.08) 9(-8,3.81) 10(-8,2.54) 11(-8,1.27) 12(-8,0) 13(-8,-1.27) 14(-8,-2.54) 15(-8,-3.81) 16(-8,-5.08) 17(-8,-6.35) 29(8,-6.35) 30(8,-5.08) 31(8,-3.81) 32(8,-2.54) 33(8,-1.27) 34(8,0) 35(8,1.27) 36(8,2.54) 37(8,3.81) 38(8,5.08) 39(8,6.35)
Top Overlay:
  circle w0.25: c0,9.55 r0.125
  circle w0.6: c0,4.6 r0.3
  lines w0.2: 6.6,5.6 -6.6,5.6 ; -6.6,5.6 -5.6,6.6 6.6,6.6 6.6,-6.6 -6.6,-6.6 -6.6,5.6
Mechanical 13:
  circle w0.1: c0,6.33 r0.5
  lines w0.1: 8.33,7.23 -8.33,7.23 ; -8.33,7.23 -8.33,-8.33 8.33,-8.33 8.33,8.33 -7.23,8.33 -8.33,7.23
Mechanical 15:
  lines w0.05: -9.1,-9.1 -9.1,9.1 9.1,9.1 9.1,-9.1 -9.1,-9.1
  lines w0.1: -0.5,0 0.5,0 ; 0,-0.5 0,0.5
3D body: height 4.58, standoff 0.51, extent -8.33,-8.33 8.33,8.33

## MCHP-PLCC-L44_M [mm] "PLCC, 44-Leads, Body 16.586x16.586mm, Pitch 1.27mm, IPC Low Density"
height 4.58
pads (44):
  oval 0.7x2.6 smd: 1(0,8.1) 2(-1.27,8.1) 3(-2.54,8.1) 4(-3.81,8.1) 5(-5.08,8.1) 6(-6.35,8.1) 18(-6.35,-8.1) 19(-5.08,-8.1) 20(-3.81,-8.1) 21(-2.54,-8.1) 22(-1.27,-8.1) 23(0,-8.1) 24(1.27,-8.1) 25(2.54,-8.1) 26(3.81,-8.1) 27(5.08,-8.1) 28(6.35,-8.1) 40(6.35,8.1) 41(5.08,8.1) 42(3.81,8.1) 43(2.54,8.1) 44(1.27,8.1)
  oval 2.6x0.7 smd: 7(-8.1,6.35) 8(-8.1,5.08) 9(-8.1,3.81) 10(-8.1,2.54) 11(-8.1,1.27) 12(-8.1,0) 13(-8.1,-1.27) 14(-8.1,-2.54) 15(-8.1,-3.81) 16(-8.1,-5.08) 17(-8.1,-6.35) 29(8.1,-6.35) 30(8.1,-5.08) 31(8.1,-3.81) 32(8.1,-2.54) 33(8.1,-1.27) 34(8.1,0) 35(8.1,1.27) 36(8.1,2.54) 37(8.1,3.81) 38(8.1,5.08) 39(8.1,6.35)
Top Overlay:
  circle w0.25: c0,9.95 r0.125
  circle w0.6: c0,4.4 r0.3
  lines w0.2: 6.4,5.4 -6.4,5.4 ; -6.4,5.4 -5.4,6.4 6.4,6.4 6.4,-6.4 -6.4,-6.4 -6.4,5.4
Mechanical 13:
  circle w0.1: c0,6.33 r0.5
  lines w0.1: 8.33,7.23 -8.33,7.23 ; -8.33,7.23 -8.33,-8.33 8.33,-8.33 8.33,8.33 -7.23,8.33 -8.33,7.23
Mechanical 15:
  lines w0.05: -9.9,-9.9 -9.9,9.9 9.9,9.9 9.9,-9.9 -9.9,-9.9
  lines w0.1: -0.5,0 0.5,0 ; 0,-0.5 0,0.5
3D body: height 4.58, standoff 0.51, extent -8.33,-8.33 8.33,8.33

## MCHP-PLCC-L44_N [mm] "PLCC, 44-Leads, Body 16.586x16.586mm, Pitch 1.27mm, IPC Medium Density"
height 4.58
pads (44):
  oval 0.6x2.3 smd: 1(0,8.05) 2(-1.27,8.05) 3(-2.54,8.05) 4(-3.81,8.05) 5(-5.08,8.05) 6(-6.35,8.05) 18(-6.35,-8.05) 19(-5.08,-8.05) 20(-3.81,-8.05) 21(-2.54,-8.05) 22(-1.27,-8.05) 23(0,-8.05) 24(1.27,-8.05) 25(2.54,-8.05) 26(3.81,-8.05) 27(5.08,-8.05) 28(6.35,-8.05) 40(6.35,8.05) 41(5.08,8.05) 42(3.81,8.05) 43(2.54,8.05) 44(1.27,8.05)
  oval 2.3x0.6 smd: 7(-8.05,6.35) 8(-8.05,5.08) 9(-8.05,3.81) 10(-8.05,2.54) 11(-8.05,1.27) 12(-8.05,0) 13(-8.05,-1.27) 14(-8.05,-2.54) 15(-8.05,-3.81) 16(-8.05,-5.08) 17(-8.05,-6.35) 29(8.05,-6.35) 30(8.05,-5.08) 31(8.05,-3.81) 32(8.05,-2.54) 33(8.05,-1.27) 34(8.05,0) 35(8.05,1.27) 36(8.05,2.54) 37(8.05,3.81) 38(8.05,5.08) 39(8.05,6.35)
Top Overlay:
  circle w0.25: c0,9.75 r0.125
  circle w0.6: c0,4.5 r0.3
  lines w0.2: 6.5,5.5 -6.5,5.5 ; -6.5,5.5 -5.5,6.5 6.5,6.5 6.5,-6.5 -6.5,-6.5 -6.5,5.5
Mechanical 13:
  circle w0.1: c0,6.33 r0.5
  lines w0.1: 8.33,7.23 -8.33,7.23 ; -8.33,7.23 -8.33,-8.33 8.33,-8.33 8.33,8.33 -7.23,8.33 -8.33,7.23
Mechanical 15:
  lines w0.05: -9.45,-9.45 -9.45,9.45 9.45,9.45 9.45,-9.45 -9.45,-9.45
  lines w0.1: -0.5,0 0.5,0 ; 0,-0.5 0,0.5
3D body: height 4.58, standoff 0.51, extent -8.33,-8.33 8.33,8.33

## MCHP-PLCC-L68_L [mm] "PLCC, 68-Leads, Body 24.23x24.23mm, Pitch 1.27mm, IPC High Density"
height 4.58
pads (68):
  oval 0.6x2.1 smd: 1(0,11.85) 2(-1.27,11.85) 3(-2.54,11.85) 4(-3.81,11.85) 5(-5.08,11.85) 6(-6.35,11.85) 7(-7.62,11.85) 8(-8.89,11.85) 9(-10.16,11.85) 27(-10.16,-11.85) 28(-8.89,-11.85) 29(-7.62,-11.85) 30(-6.35,-11.85) 31(-5.08,-11.85) 32(-3.81,-11.85) 33(-2.54,-11.85) 34(-1.27,-11.85) 35(0,-11.85) 36(1.27,-11.85) 37(2.54,-11.85) 38(3.81,-11.85) 39(5.08,-11.85) 40(6.35,-11.85) 41(7.62,-11.85) 42(8.89,-11.85) 43(10.16,-11.85) 61(10.16,11.85) 62(8.89,11.85) 63(7.62,11.85) 64(6.35,11.85) 65(5.08,11.85) 66(3.81,11.85) 67(2.54,11.85) 68(1.27,11.85)
  oval 2.1x0.6 smd: 10(-11.85,10.16) 11(-11.85,8.89) 12(-11.85,7.62) 13(-11.85,6.35) 14(-11.85,5.08) 15(-11.85,3.81) 16(-11.85,2.54) 17(-11.85,1.27) 18(-11.85,0) 19(-11.85,-1.27) 20(-11.85,-2.54) 21(-11.85,-3.81) 22(-11.85,-5.08) 23(-11.85,-6.35) 24(-11.85,-7.62) 25(-11.85,-8.89) 26(-11.85,-10.16) 44(11.85,-10.16) 45(11.85,-8.89) 46(11.85,-7.62) 47(11.85,-6.35) 48(11.85,-5.08) 49(11.85,-3.81) 50(11.85,-2.54) 51(11.85,-1.27) 52(11.85,0) 53(11.85,1.27) 54(11.85,2.54) 55(11.85,3.81) 56(11.85,5.08) 57(11.85,6.35) 58(11.85,7.62) 59(11.85,8.89) 60(11.85,10.16)
Top Overlay:
  circle w0.25: c0,13.45 r0.125
  circle w0.6: c0,8.4 r0.3
  lines w0.2: 10.4,9.4 -10.4,9.4 ; -10.4,9.4 -9.4,10.4 10.4,10.4 10.4,-10.4 -10.4,-10.4 -10.4,9.4
Mechanical 13:
  circle w0.1: c0,10.165 r0.5
  lines w0.1: 12.165,11.065 -12.165,11.065 ; -12.165,11.065 -12.165,-12.165 12.165,-12.165 12.165,12.165 -11.065,12.165 -12.165,11.065
Mechanical 15:
  lines w0.05: -13,-13 -13,13 13,13 13,-13 -13,-13
  lines w0.1: -0.5,0 0.5,0 ; 0,-0.5 0,0.5
3D body: height 4.58, standoff 0.51, extent -12.165,-12.165 12.165,12.165

## MCHP-PLCC-L68_M [mm] "PLCC, 68-Leads, Body 24.23x24.23mm, Pitch 1.27mm, IPC Low Density"
height 4.58
pads (68):
  oval 0.7x2.7 smd: 1(0,11.95) 2(-1.27,11.95) 3(-2.54,11.95) 4(-3.81,11.95) 5(-5.08,11.95) 6(-6.35,11.95) 7(-7.62,11.95) 8(-8.89,11.95) 9(-10.16,11.95) 27(-10.16,-11.95) 28(-8.89,-11.95) 29(-7.62,-11.95) 30(-6.35,-11.95) 31(-5.08,-11.95) 32(-3.81,-11.95) 33(-2.54,-11.95) 34(-1.27,-11.95) 35(0,-11.95) 36(1.27,-11.95) 37(2.54,-11.95) 38(3.81,-11.95) 39(5.08,-11.95) 40(6.35,-11.95) 41(7.62,-11.95) 42(8.89,-11.95) 43(10.16,-11.95) 61(10.16,11.95) 62(8.89,11.95) 63(7.62,11.95) 64(6.35,11.95) 65(5.08,11.95) 66(3.81,11.95) 67(2.54,11.95) 68(1.27,11.95)
  oval 2.7x0.7 smd: 10(-11.95,10.16) 11(-11.95,8.89) 12(-11.95,7.62) 13(-11.95,6.35) 14(-11.95,5.08) 15(-11.95,3.81) 16(-11.95,2.54) 17(-11.95,1.27) 18(-11.95,0) 19(-11.95,-1.27) 20(-11.95,-2.54) 21(-11.95,-3.81) 22(-11.95,-5.08) 23(-11.95,-6.35) 24(-11.95,-7.62) 25(-11.95,-8.89) 26(-11.95,-10.16) 44(11.95,-10.16) 45(11.95,-8.89) 46(11.95,-7.62) 47(11.95,-6.35) 48(11.95,-5.08) 49(11.95,-3.81) 50(11.95,-2.54) 51(11.95,-1.27) 52(11.95,0) 53(11.95,1.27) 54(11.95,2.54) 55(11.95,3.81) 56(11.95,5.08) 57(11.95,6.35) 58(11.95,7.62) 59(11.95,8.89) 60(11.95,10.16)
Top Overlay:
  circle w0.25: c0,13.85 r0.125
  circle w0.6: c0,8.2 r0.3
  lines w0.2: 10.2,9.2 -10.2,9.2 ; -10.2,9.2 -9.2,10.2 10.2,10.2 10.2,-10.2 -10.2,-10.2 -10.2,9.2
Mechanical 13:
  circle w0.1: c0,10.165 r0.5
  lines w0.1: 12.165,11.065 -12.165,11.065 ; -12.165,11.065 -12.165,-12.165 12.165,-12.165 12.165,12.165 -11.065,12.165 -12.165,11.065
Mechanical 15:
  lines w0.05: -13.8,-13.8 -13.8,13.8 13.8,13.8 13.8,-13.8 -13.8,-13.8
  lines w0.1: -0.5,0 0.5,0 ; 0,-0.5 0,0.5
3D body: height 4.58, standoff 0.51, extent -12.165,-12.165 12.165,12.165

## MCHP-PLCC-L68_N [mm] "PLCC, 68-Leads, Body 24.23x24.23mm, Pitch 1.27mm, IPC Medium Density"
height 4.58
pads (68):
  oval 0.7x2.7 smd: 1(0,11.95) 2(-1.27,11.95) 3(-2.54,11.95) 4(-3.81,11.95) 5(-5.08,11.95) 6(-6.35,11.95) 7(-7.62,11.95) 8(-8.89,11.95) 9(-10.16,11.95) 27(-10.16,-11.95) 28(-8.89,-11.95) 29(-7.62,-11.95) 30(-6.35,-11.95) 31(-5.08,-11.95) 32(-3.81,-11.95) 33(-2.54,-11.95) 34(-1.27,-11.95) 35(0,-11.95) 36(1.27,-11.95) 37(2.54,-11.95) 38(3.81,-11.95) 39(5.08,-11.95) 40(6.35,-11.95) 41(7.62,-11.95) 42(8.89,-11.95) 43(10.16,-11.95) 61(10.16,11.95) 62(8.89,11.95) 63(7.62,11.95) 64(6.35,11.95) 65(5.08,11.95) 66(3.81,11.95) 67(2.54,11.95) 68(1.27,11.95)
  oval 2.7x0.7 smd: 10(-11.95,10.16) 11(-11.95,8.89) 12(-11.95,7.62) 13(-11.95,6.35) 14(-11.95,5.08) 15(-11.95,3.81) 16(-11.95,2.54) 17(-11.95,1.27) 18(-11.95,0) 19(-11.95,-1.27) 20(-11.95,-2.54) 21(-11.95,-3.81) 22(-11.95,-5.08) 23(-11.95,-6.35) 24(-11.95,-7.62) 25(-11.95,-8.89) 26(-11.95,-10.16) 44(11.95,-10.16) 45(11.95,-8.89) 46(11.95,-7.62) 47(11.95,-6.35) 48(11.95,-5.08) 49(11.95,-3.81) 50(11.95,-2.54) 51(11.95,-1.27) 52(11.95,0) 53(11.95,1.27) 54(11.95,2.54) 55(11.95,3.81) 56(11.95,5.08) 57(11.95,6.35) 58(11.95,7.62) 59(11.95,8.89) 60(11.95,10.16)
Top Overlay:
  circle w0.25: c0,13.85 r0.125
  circle w0.6: c0,8.2 r0.3
  lines w0.2: 10.2,9.2 -10.2,9.2 ; -10.2,9.2 -9.2,10.2 10.2,10.2 10.2,-10.2 -10.2,-10.2 -10.2,9.2
Mechanical 13:
  circle w0.1: c0,10.165 r0.5
  lines w0.1: 12.165,11.065 -12.165,11.065 ; -12.165,11.065 -12.165,-12.165 12.165,-12.165 12.165,12.165 -11.065,12.165 -12.165,11.065
Mechanical 15:
  lines w0.05: -13.55,-13.55 -13.55,13.55 13.55,13.55 13.55,-13.55 -13.55,-13.55
  lines w0.1: -0.5,0 0.5,0 ; 0,-0.5 0,0.5
3D body: height 4.58, standoff 0.51, extent -12.165,-12.165 12.165,12.165

## MCHP-QFN-MG16_L [mm] "QFN, 16-Leads, Body 3x3mm, Pitch 0.5mm, Thermal Pad 1.25x1.25mm, IPC High Density"
height 0.9
pads (17):
  oval 0.55x0.2 smd: 1(-1.475,0.75) 2(-1.475,0.25) 3(-1.475,-0.25) 4(-1.475,-0.75) 9(1.475,-0.75) 10(1.475,-0.25) 11(1.475,0.25) 12(1.475,0.75)
  oval 0.2x0.55 smd: 5(-0.75,-1.475) 6(-0.25,-1.475) 7(0.25,-1.475) 8(0.75,-1.475) 13(0.75,1.475) 14(0.25,1.475) 15(-0.25,1.475) 16(-0.75,1.475)
  rect 1.25x1.25 smd: 17(0,0)
via 0,0 diameter 0.5 hole 0.2
Top Overlay:
  circle w0.25: c-2.3,1.5 r0.125
  lines w0.2: -1.65,-1.25 -1.65,-1.65 -1.25,-1.65 ; -1.65,1.25 -1.65,1.65 -1.25,1.65 ; 1.25,-1.65 1.65,-1.65 1.65,-1.25 ; 1.25,1.65 1.65,1.65 1.65,1.25
Mechanical 13:
  circle w0.1: c-0.6,0.6 r0.5
  lines w0.1: -1.5,-1.5 -1.5,1.5 1.5,1.5 1.5,-1.5 -1.5,-1.5
Mechanical 15:
  lines w0.05: -1.85,-1.85 -1.85,1.85 1.85,1.85 1.85,-1.85 -1.85,-1.85
  lines w0.1: -0.5,0 0.5,0 ; 0,-0.5 0,0.5
3D body: height 0.9, standoff 0, extent -1.5,-1.5 1.5,1.5

## MCHP-QFN-MG16_M [mm] "QFN, 16-Leads, Body 3x3mm, Pitch 0.5mm, Thermal Pad 1.25x1.25mm, IPC Low Density"
height 0.9
pads (17):
  oval 0.75x0.2 smd: 1(-1.575,0.75) 2(-1.575,0.25) 3(-1.575,-0.25) 4(-1.575,-0.75) 9(1.575,-0.75) 10(1.575,-0.25) 11(1.575,0.25) 12(1.575,0.75)
  oval 0.2x0.75 smd: 5(-0.75,-1.575) 6(-0.25,-1.575) 7(0.25,-1.575) 8(0.75,-1.575) 13(0.75,1.575) 14(0.25,1.575) 15(-0.25,1.575) 16(-0.75,1.575)
  rect 1.25x1.25 smd: 17(0,0)
via 0,0 diameter 0.5 hole 0.2
Top Overlay:
  circle w0.25: c-2.3,1.5 r0.125
  lines w0.2: -1.65,-1.25 -1.65,-1.65 -1.25,-1.65 ; -1.65,1.25 -1.65,1.65 -1.25,1.65 ; 1.25,-1.65 1.65,-1.65 1.65,-1.25 ; 1.25,1.65 1.65,1.65 1.65,1.25
Mechanical 13:
  circle w0.1: c-0.6,0.6 r0.5
  lines w0.1: -1.5,-1.5 -1.5,1.5 1.5,1.5 1.5,-1.5 -1.5,-1.5
Mechanical 15:
  lines w0.05: -2.45,-2.45 -2.45,2.45 2.45,2.45 2.45,-2.45 -2.45,-2.45
  lines w0.1: -0.5,0 0.5,0 ; 0,-0.5 0,0.5
3D body: height 0.9, standoff 0, extent -1.5,-1.5 1.5,1.5